# Altium schematic symbol library DS90UB960WRTDRQ1.SchLib: 1 symbol
Pins are listed as number, name and electrical type; pins without a type are passive.

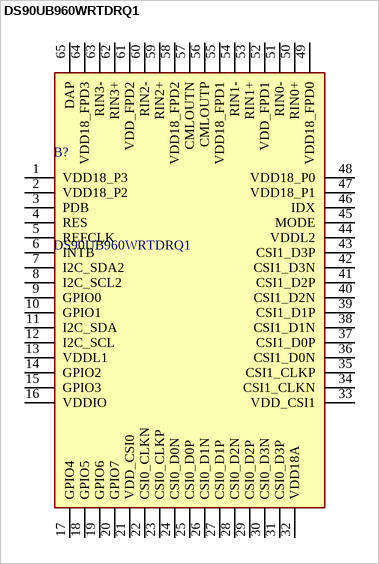
[diagram p0: symbol DS90UB960WRTDRQ1]

## DS90UB960WRTDRQ1
designator B?
LVDS Deserializer 4160Mbps Automotive 64-Pin VQFN EP T/R; Manufacturer_Name: Texas Instruments; Geometry.Height: 0.9mm; Mouser Part Number: 595-DS90UB960WRTDRQ1; Mouser Price/Stock: https://www.mouser.co.uk/ProductDetail/Texas-Instruments/DS90UB960WRTDRQ1?qs=EU6FO9ffTwdY8goEJWiHUg%3D%3D; Manufacturer_Part_Number: DS90UB960WRTDRQ1; Datasheet Link: https://www.ti.com/lit/ds/symlink/ds90ub960-q1.pdf?HQS=dis-mous-null-mousermode-dsf-pf-null-wwe&DCM=yes&ref_u
footprint QFN50P900X900X90-65N-D
pins: 1 VDD18_P3, 2 VDD18_P2, 3 PDB, 4 RES, 5 REFCLK, 6 INTB, 7 I2C_SDA2, 8 I2C_SCL2, 9 GPIO0, 10 GPIO1, 11 I2C_SDA, 12 I2C_SCL, 13 VDDL1, 14 GPIO2, 15 GPIO3, 16 VDDIO, 17 GPIO4, 18 GPIO5, 19 GPIO6, 20 GPIO7, 21 VDD_CSI0, 22 CSI0_CLKN, 23 CSI0_CLKP, 24 CSI0_D0N, 25 CSI0_D0P, 26 CSI0_D1N, 27 CSI0_D1P, 28 CSI0_D2N, 29 CSI0_D2P, 30 CSI0_D3N, 31 CSI0_D3P, 32 VDD18A, 33 VDD_CSI1, 34 CSI1_CLKN, 35 CSI1_CLKP, 36 CSI1_D0N, 37 CSI1_D0P, 38 CSI1_D1N, 39 CSI1_D1P, 40 CSI1_D2N, 41 CSI1_D2P, 42 CSI1_D3N, 43 CSI1_D3P, 44 VDDL2, 45 MODE, 46 IDX, 47 VDD18_P1, 48 VDD18_P0, 49 VDD18_FPD0, 50 RIN0+, 51 RIN0-, 52 VDD_FPD1, 53 RIN1+, 54 RIN1-, 55 VDD18_FPD1, 56 CMLOUTP, 57 CMLOUTN, 58 VDD18_FPD2, 59 RIN2+, 60 RIN2-, 61 VDD_FPD2, 62 RIN3+, 63 RIN3-, 64 VDD18_FPD3, 65 DAP